# Altium footprint library IND_SPM10040T-2R2M-HZ.PcbLib: 1 footprints
Each footprint in its own frame and in the unit in brackets; x right, y up, seen from the top. Pads: shape width x height; smd on the part's side, far side on the other; paste and mask are expansions set on the pad; w line width, h text height; cw(c..) or ccw(c..) is an arc to the next point about the centre after c.
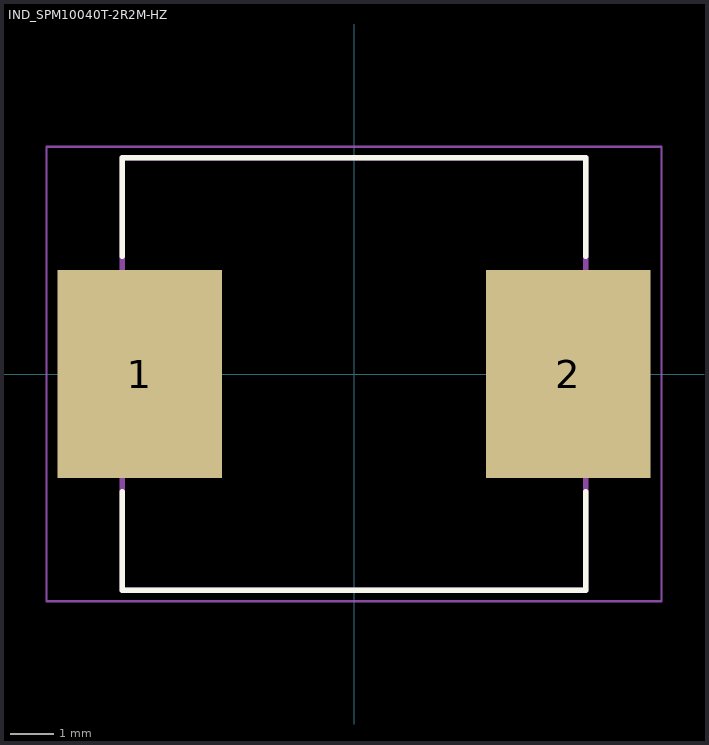
[diagram p0: the footprint, top view; thin cyan lines are the x and y axes]

## IND_SPM10040T-2R2M-HZ [mm]
height 4
pads (2):
  rect 3.8x4.8 smd: 1(-4.95,0) 2(4.95,0)
Top Overlay:
  lines w0.127: -5.35,-2.72 -5.35,-5 5.35,-5 5.35,-2.72 ; -5.35,2.72 -5.35,5 5.35,5 5.35,2.72
Mechanical 13:
  lines w0.127: -5.35,-5 -5.35,5 5.35,5 5.35,-5 -5.35,-5
Mechanical 15:
  lines w0.05: -7.1,-5.25 -7.1,5.25 7.1,5.25 7.1,-5.25 -7.1,-5.25
3D body "step_temp.STEP": height 4, standoff 0, extent -5.35,-5 5.35,5